# Altium schematic symbol library MODULE.SchLib: 34 symbols
Pins are listed as number, name and electrical type; pins without a type are passive.

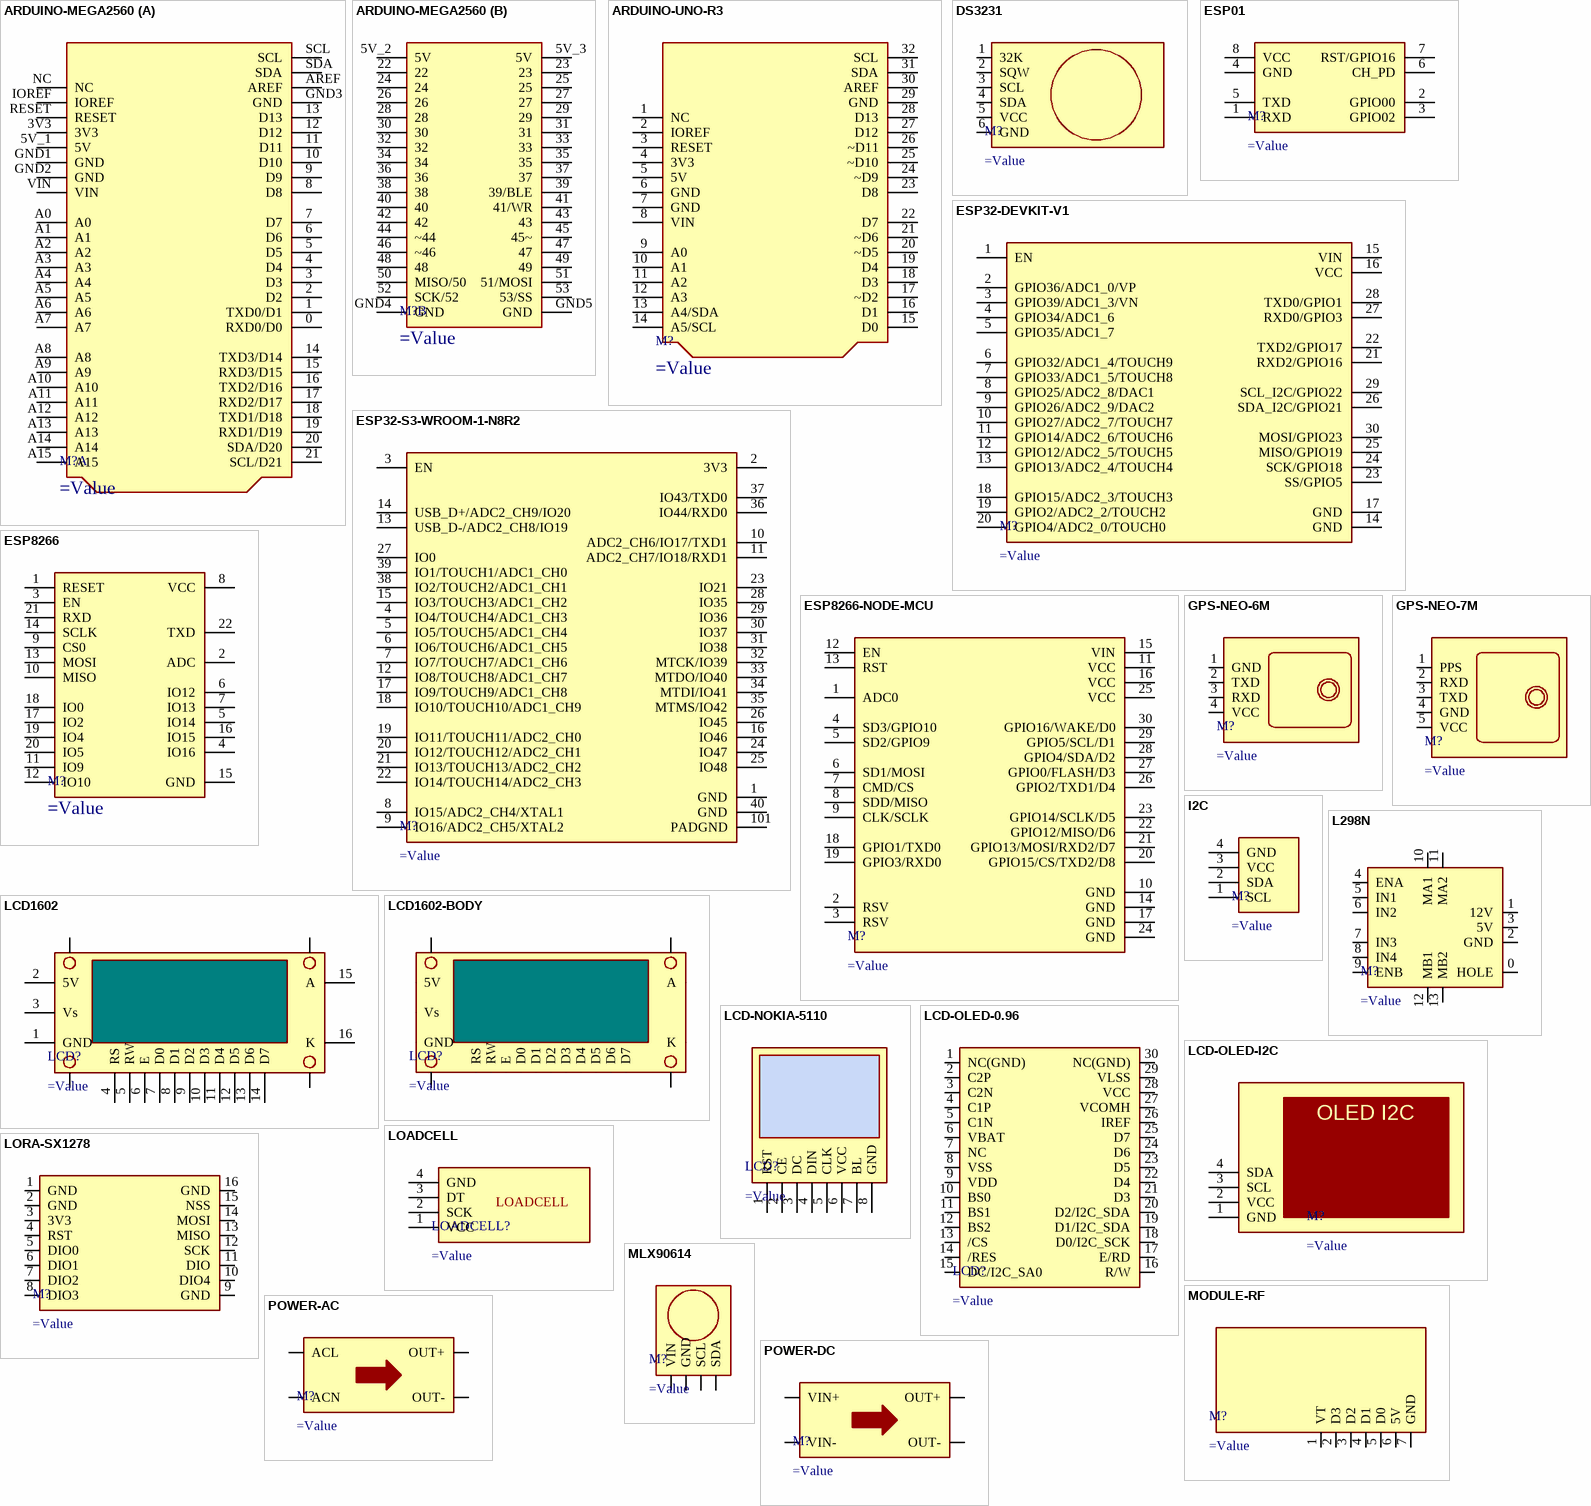
[diagram p0: symbols ARDUINO-MEGA2560 to POWER-DC]

## ARDUINO-MEGA2560
designator M?
=Description
part A pins: 0 RXD0/D0, 1 TXD0/D1, 2 D2, 3 D3, 3V3, 4 D4, 5 D5, 5V_1 5V, 6 D6, 7 D7, 8 D8, 9 D9, 10 D10, 11 D11, 12 D12, 13 D13, 14 TXD3/D14, 15 RXD3/D15, 16 TXD2/D16, 17 RXD2/D17, 18 TXD1/D18, 19 RXD1/D19, 20 SDA/D20, 21 SCL/D21, A0, A1, A2, A3, A4, A5, A6, A7, A8, A9, A10, A11, A12, A13, A14, A15, AREF, GND1 GND, GND2 GND, GND3 GND, IOREF, NC, RESET, SCL, SDA, VIN
part B pins: 5V_2 5V, 5V_3 5V, 22, 23, 24, 25, 26, 27, 28, 29, 30, 31, 32, 33, 34, 35, 36, 37, 38, 39 39/BLE, 40, 41 41/WR, 42, 43, 44 ~44, 45 45~, 46 ~46, 47, 48, 49, 50 MISO/50, 51 51/MOSI, 52 SCK/52, 53 53/SS, GND4 GND, GND5 GND

## ARDUINO-UNO-R3
designator M?
=Description
pins: 1 NC, 2 IOREF, 3 RESET, 4 3V3, 5 5V, 6 GND, 7 GND, 8 VIN (power), 9 A0, 10 A1, 11 A2, 12 A3, 13 A4/SDA, 14 A5/SCL, 15 D0, 16 D1, 17 ~D2, 18 D3, 19 D4, 20 ~D5, 21 ~D6, 22 D7, 23 D8, 24 ~D9, 25 ~D10, 26 ~D11, 27 D12, 28 D13, 29 GND, 30 AREF, 31 SDA, 32 SCL

## DS3231
designator M?
=Description
pins: 1 32K, 2 SQW, 3 SCL, 4 SDA, 5 VCC, 6 GND

## ESP01
designator M?
=Description
pins: 1 RXD, 2 GPIO00, 3 GPIO02, 4 GND, 5 TXD, 6 CH_PD, 7 RST/GPIO16, 8 VCC

## ESP32-DEVKIT-V1
designator M?
=Description
pins: 1 EN, 2 GPIO36/ADC1_0/VP, 3 GPIO39/ADC1_3/VN, 4 GPIO34/ADC1_6, 5 GPIO35/ADC1_7, 6 GPIO32/ADC1_4/TOUCH9, 7 GPIO33/ADC1_5/TOUCH8, 8 GPIO25/ADC2_8/DAC1, 9 GPIO26/ADC2_9/DAC2, 10 GPIO27/ADC2_7/TOUCH7, 11 GPIO14/ADC2_6/TOUCH6, 12 GPIO12/ADC2_5/TOUCH5, 13 GPIO13/ADC2_4/TOUCH4, 14 GND, 15 VIN, 16 VCC, 17 GND, 18 GPIO15/ADC2_3/TOUCH3, 19 GPIO2/ADC2_2/TOUCH2, 20 GPIO4/ADC2_0/TOUCH0, 21 RXD2/GPIO16, 22 TXD2/GPIO17, 23 SS/GPIO5, 24 SCK/GPIO18, 25 MISO/GPIO19, 26 SDA_I2C/GPIO21, 27 RXD0/GPIO3, 28 TXD0/GPIO1, 29 SCL_I2C/GPIO22, 30 MOSI/GPIO23

## ESP32-S3-WROOM-1-N8R2
designator M?
=Description
pins: 1 GND, 2 3V3, 3 EN, 4 IO4/TOUCH4/ADC1_CH3, 5 IO5/TOUCH5/ADC1_CH4, 6 IO6/TOUCH6/ADC1_CH5, 7 IO7/TOUCH7/ADC1_CH6, 8 IO15/ADC2_CH4/XTAL1, 9 IO16/ADC2_CH5/XTAL2, 10 ADC2_CH6/IO17/TXD1, 11 ADC2_CH7/IO18/RXD1, 12 IO8/TOUCH8/ADC1_CH7, 13 USB_D-/ADC2_CH8/IO19, 14 USB_D+/ADC2_CH9/IO20, 15 IO3/TOUCH3/ADC1_CH2, 16 IO46, 17 IO9/TOUCH9/ADC1_CH8, 18 IO10/TOUCH10/ADC1_CH9, 19 IO11/TOUCH11/ADC2_CH0, 20 IO12/TOUCH12/ADC2_CH1, 21 IO13/TOUCH13/ADC2_CH2, 22 IO14/TOUCH14/ADC2_CH3, 23 IO21, 24 IO47, 25 IO48, 26 IO45, 27 IO0, 28 IO35, 29 IO36, 30 IO37, 31 IO38, 32 MTCK/IO39, 33 MTDO/IO40, 34 MTDI/IO41, 35 MTMS/IO42, 36 IO44/RXD0, 37 IO43/TXD0, 38 IO2/TOUCH2/ADC1_CH1, 39 IO1/TOUCH1/ADC1_CH0, 40 GND, 101 PADGND

## ESP8266
designator M?
=Description
pins: 1 RESET, 2 ADC, 3 EN, 4 IO16, 5 IO14, 6 IO12, 7 IO13, 8 VCC, 9 CS0, 10 MISO, 11 IO9, 12 IO10, 13 MOSI, 14 SCLK, 15 GND, 16 IO15, 17 IO2, 18 IO0, 19 IO4, 20 IO5, 21 RXD, 22 TXD

## ESP8266-NODE-MCU
designator M?
=Description
pins: 1 ADC0, 2 RSV, 3 RSV, 4 SD3/GPIO10, 5 SD2/GPIO9, 6 SD1/MOSI, 7 CMD/CS, 8 SDD/MISO, 9 CLK/SCLK, 10 GND, 11 VCC, 12 EN, 13 RST, 14 GND, 15 VIN, 16 VCC, 17 GND, 18 GPIO1/TXD0, 19 GPIO3/RXD0, 20 GPIO15/CS/TXD2/D8, 21 GPIO13/MOSI/RXD2/D7, 22 GPIO12/MISO/D6, 23 GPIO14/SCLK/D5, 24 GND, 25 VCC, 26 GPIO2/TXD1/D4, 27 GPIO0/FLASH/D3, 28 GPIO4/SDA/D2, 29 GPIO5/SCL/D1, 30 GPIO16/WAKE/D0

## GPS-NEO-6M
designator M?
=Description
pins: 1 GND, 2 TXD, 3 RXD, 4 VCC

## GPS-NEO-7M
designator M?
=Description
footprint MODULE GPS NEO-7M
pins: 1 PPS, 2 RXD, 3 TXD, 4 GND, 5 VCC

## I2C
designator M?
=Description
pins: 1 SCL, 2 SDA, 3 VCC, 4 GND

## L298N
designator M?
=Description
pins: 0 HOLE, 1 12V, 2 GND, 3 5V, 4 ENA, 5 IN1, 6 IN2, 7 IN3, 8 IN4, 9 ENB, 10 MA1, 11 MA2, 12 MB1, 13 MB2

## LCD1602
designator LCD?
=Description
pins: 1 GND, 2 5V, 3 Vs, 4 RS, 5 RW, 6 E, 7 D0, 8 D1, 9 D2, 10 D3, 11 D4, 12 D5, 13 D6, 14 D7, 15 A, 16 K, H1, H2, H3, H4
2 alternate drawings of the same symbol

## LCD1602-BODY
designator LCD?
=Description
pins: 1 GND, 2 5V, 3 Vs, 4 RS, 5 RW, 6 E, 7 D0, 8 D1, 9 D2, 10 D3, 11 D4, 12 D5, 13 D6, 14 D7, 15 A, 16 K, H1, H2, H3, H4
2 alternate drawings of the same symbol

## LCD-NOKIA-5110
designator LCD?
=Description
pins: 1 RST, 2 CE, 3 DC, 4 DIN, 5 CLK, 6 VCC, 7 BL, 8 GND

## LCD-OLED-0.96
designator LCD?
=Description
footprint OLED 0.96" SSD1306 Display
pins: 1 NC(GND), 2 C2P, 3 C2N, 4 C1P, 5 C1N, 6 VBAT, 7 NC, 8 VSS, 9 VDD, 10 BS0, 11 BS1, 12 BS2, 13 /CS, 14 /RES, 15 DC/I2C_SA0, 16 R/W, 17 E/RD, 18 D0/I2C_SCK, 19 D1/I2C_SDA, 20 D2/I2C_SDA, 21 D3, 22 D4, 23 D5, 24 D6, 25 D7, 26 IREF, 27 VCOMH, 28 VCC, 29 VLSS, 30 NC(GND)

## LCD-OLED-I2C
designator M?
=Description
pins: 1 GND, 2 VCC, 3 SCL, 4 SDA
text: OLED I2C

## LOADCELL
designator LOADCELL?
=Description
pins: 1 VCC, 2 SCK, 3 DT, 4 GND

## LORA-SX1278
designator M?
=Description
footprint LORA SX1278
pins: 1 GND, 2 GND, 3 3V3, 4 RST, 5 DIO0, 6 DIO1, 7 DIO2, 8 DIO3, 9 GND, 10 DIO4, 11 DIO, 12 SCK, 13 MISO, 14 MOSI, 15 NSS, 16 GND

## MLX90614
designator M?
=Description
pins: 1 VIN, 2 GND, 3 SCL, 4 SDA

## MODULE-RF
designator M?
=Description
footprint MODULE RF
pins: 1 VT, 2 D3, 3 D2, 4 D1, 5 D0, 6 5V, 7 GND

## POWER-AC
designator M?
=Description
pins: 1 ACL, 2 ACN, 3 OUT-, 4 OUT+

## POWER-DC
designator M?
=Description
pins: 1 VIN+, 2 VIN-, 3 OUT-, 4 OUT+

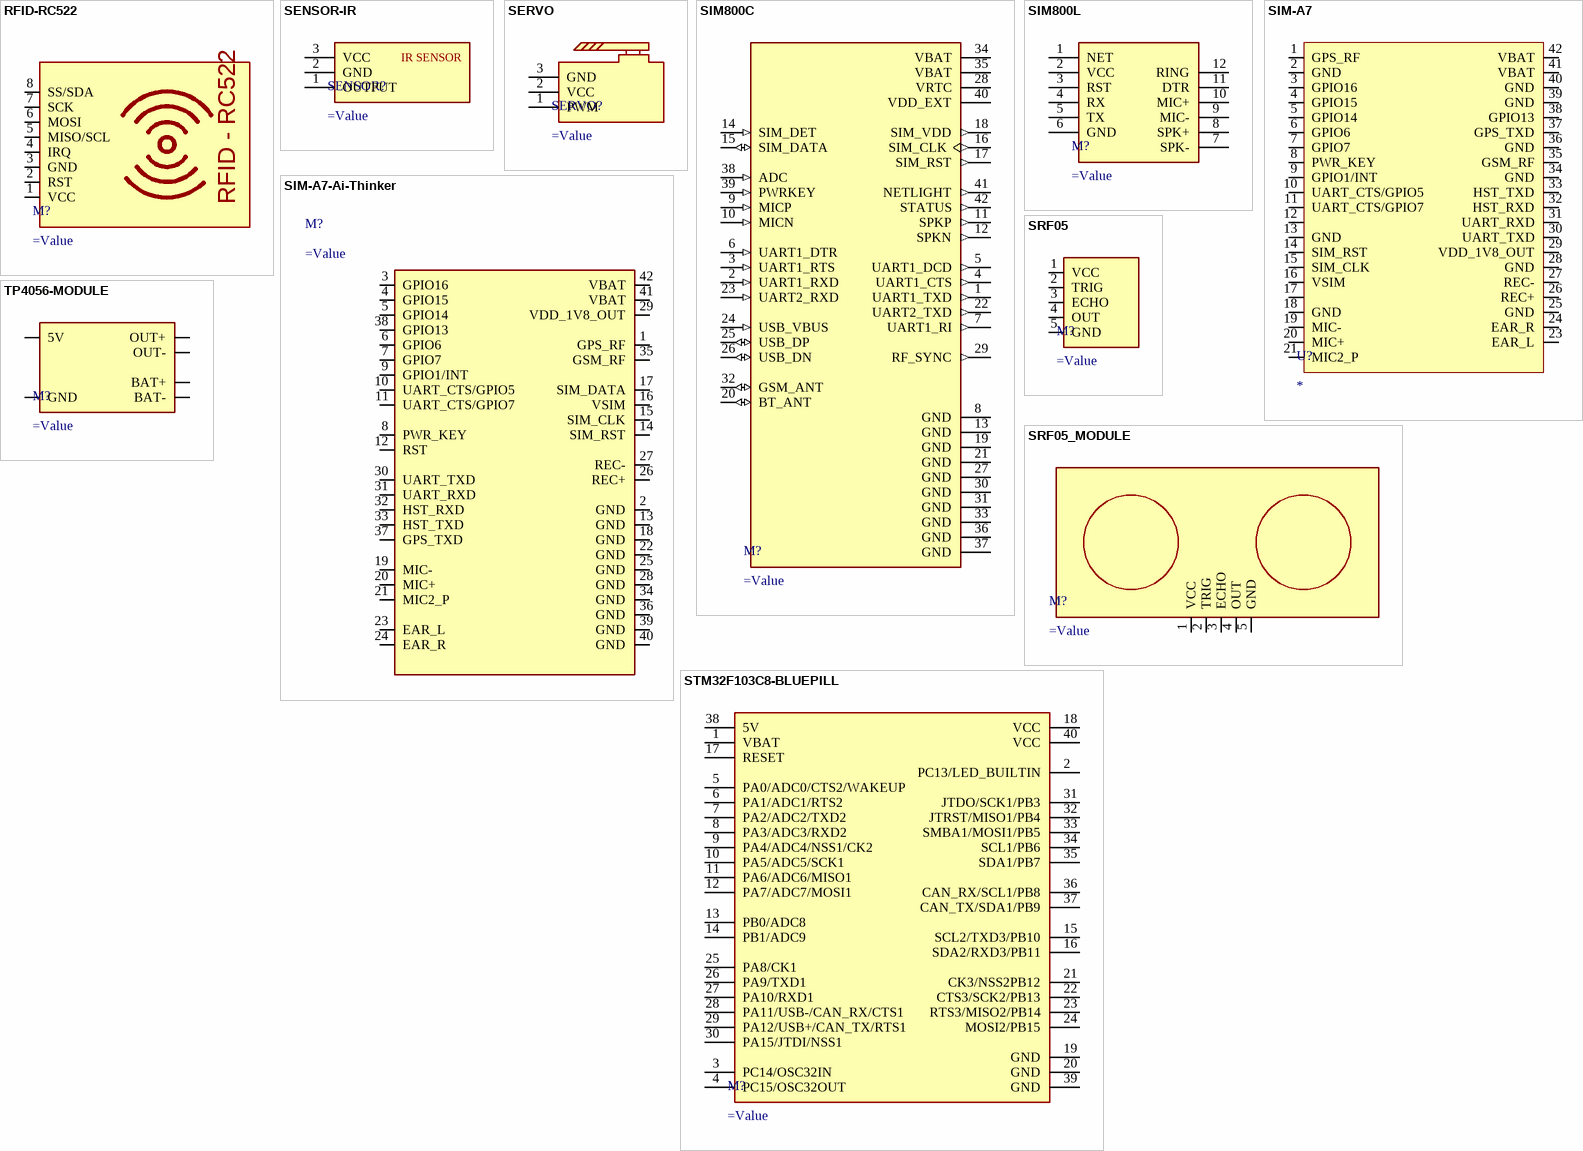
[diagram p1: symbols RFID-RC522 to TP4056-MODULE]

## RFID-RC522
designator M?
=Description
pins: 1 VCC, 2 RST, 3 GND, 4 IRQ, 5 MISO/SCL, 6 MOSI, 7 SCK, 8 SS/SDA
text: RFID - RC522

## SENSOR-IR
designator SENSOR?
=Description
pins: 1 OUTPUT, 2 GND, 3 VCC
text: IR SENSOR

## SERVO
designator SERVO?
=Description
pins: 1 PWM, 2 VCC, 3 GND

## SIM800C
designator M?
=Description
footprint SIM800C
pins: 1 UART1_TXD (out), 2 UART1_RXD (in), 3 UART1_RTS (in), 4 UART1_CTS (out), 5 UART1_DCD (out), 6 UART1_DTR (in), 7 UART1_RI (out), 8 GND (power), 9 MICP (in), 10 MICN (in), 11 SPKP (out), 12 SPKN (out), 13 GND (power), 14 SIM_DET (in), 15 SIM_DATA (io), 16 SIM_CLK (out), 17 SIM_RST (out), 18 SIM_VDD (out), 19 GND (power), 20 BT_ANT (io), 21 GND (power), 22 UART2_TXD (out), 23 UART2_RXD (in), 24 USB_VBUS (in), 25 USB_DP (io), 26 USB_DN (io), 27 GND (power), 28 VRTC, 29 RF_SYNC (out), 30 GND (power), 31 GND (power), 32 GSM_ANT (io), 33 GND (power), 34 VBAT, 35 VBAT, 36 GND (power), 37 GND (power), 38 ADC (in), 39 PWRKEY (in), 40 VDD_EXT, 41 NETLIGHT (out), 42 STATUS (out)

## SIM800L
designator M?
=Description
footprint SIM
pins: 1 NET, 2 VCC, 3 RST, 4 RX, 5 TX, 6 GND, 7 SPK-, 8 SPK+, 9 MIC-, 10 MIC+, 11 DTR, 12 RING

## SIM-A7
designator U?
=Description
footprint SIM A7 Ai-Thinker
pins: 1 GPS_RF, 2 GND, 3 GPIO16, 4 GPIO15, 5 GPIO14, 6 GPIO6, 7 GPIO7, 8 PWR_KEY, 9 GPIO1/INT, 10 UART_CTS/GPIO5, 11 UART_CTS/GPIO7, 12 RST, 13 GND, 14 SIM_RST, 15 SIM_CLK, 16 VSIM, 17 SIM_DATA, 18 GND, 19 MIC-, 20 MIC+, 21 MIC2_P, 23 EAR_L, 24 EAR_R, 25 GND, 26 REC+, 27 REC-, 28 GND, 29 VDD_1V8_OUT, 30 UART_TXD, 31 UART_RXD, 32 HST_RXD, 33 HST_TXD, 34 GND, 35 GSM_RF, 36 GND, 37 GPS_TXD, 38 GPIO13, 39 GND, 40 GND, 41 VBAT, 42 VBAT

## SIM-A7-Ai-Thinker
designator M?
=Description
footprint SIM A7 Ai-Thinker
pins: 1 GPS_RF, 2 GND, 3 GPIO16, 4 GPIO15, 5 GPIO14, 6 GPIO6, 7 GPIO7, 8 PWR_KEY, 9 GPIO1/INT, 10 UART_CTS/GPIO5, 11 UART_CTS/GPIO7, 12 RST, 13 GND, 14 SIM_RST, 15 SIM_CLK, 16 VSIM, 17 SIM_DATA, 18 GND, 19 MIC-, 20 MIC+, 21 MIC2_P, 22 GND, 23 EAR_L, 24 EAR_R, 25 GND, 26 REC+, 27 REC-, 28 GND, 29 VDD_1V8_OUT, 30 UART_TXD, 31 UART_RXD, 32 HST_RXD, 33 HST_TXD, 34 GND, 35 GSM_RF, 36 GND, 37 GPS_TXD, 38 GPIO13, 39 GND, 40 GND, 41 VBAT, 42 VBAT

## SRF05
designator M?
=Description
pins: 1 VCC, 2 TRIG, 3 ECHO, 4 OUT, 5 GND

## SRF05_MODULE
designator M?
=Description
footprint SRF05
pins: 1 VCC, 2 TRIG, 3 ECHO, 4 OUT, 5 GND

## STM32F103C8-BLUEPILL
designator M?
=Description
pins: 1 VBAT, 2 PC13/LED_BUILTIN, 3 PC14/OSC32IN, 4 PC15/OSC32OUT, 5 PA0/ADC0/CTS2/WAKEUP, 6 PA1/ADC1/RTS2, 7 PA2/ADC2/TXD2, 8 PA3/ADC3/RXD2, 9 PA4/ADC4/NSS1/CK2, 10 PA5/ADC5/SCK1, 11 PA6/ADC6/MISO1, 12 PA7/ADC7/MOSI1, 13 PB0/ADC8, 14 PB1/ADC9, 15 SCL2/TXD3/PB10, 16 SDA2/RXD3/PB11, 17 RESET, 18 VCC, 19 GND, 20 GND, 21 CK3/NSS2PB12, 22 CTS3/SCK2/PB13, 23 RTS3/MISO2/PB14, 24 MOSI2/PB15, 25 PA8/CK1, 26 PA9/TXD1, 27 PA10/RXD1, 28 PA11/USB-/CAN_RX/CTS1, 29 PA12/USB+/CAN_TX/RTS1, 30 PA15/JTDI/NSS1, 31 JTDO/SCK1/PB3, 32 JTRST/MISO1/PB4, 33 SMBA1/MOSI1/PB5, 34 SCL1/PB6, 35 SDA1/PB7, 36 CAN_RX/SCL1/PB8, 37 CAN_TX/SDA1/PB9, 38 5V, 39 GND, 40 VCC

## TP4056-MODULE
designator M?
=Description
pins: 1 5V, 2 GND, 3 OUT+, 4 OUT-, 5 BAT-, 6 BAT+